# Altium footprint library ALTAIR_PD_PlatedTH.PcbLib: 1 footprints
Each footprint in its own frame and in the unit in brackets; x right, y up, seen from the top. Pads: shape width x height; smd on the part's side, far side on the other; paste and mask are expansions set on the pad; w line width, h text height; cw(c..) or ccw(c..) is an arc to the next point about the centre after c.
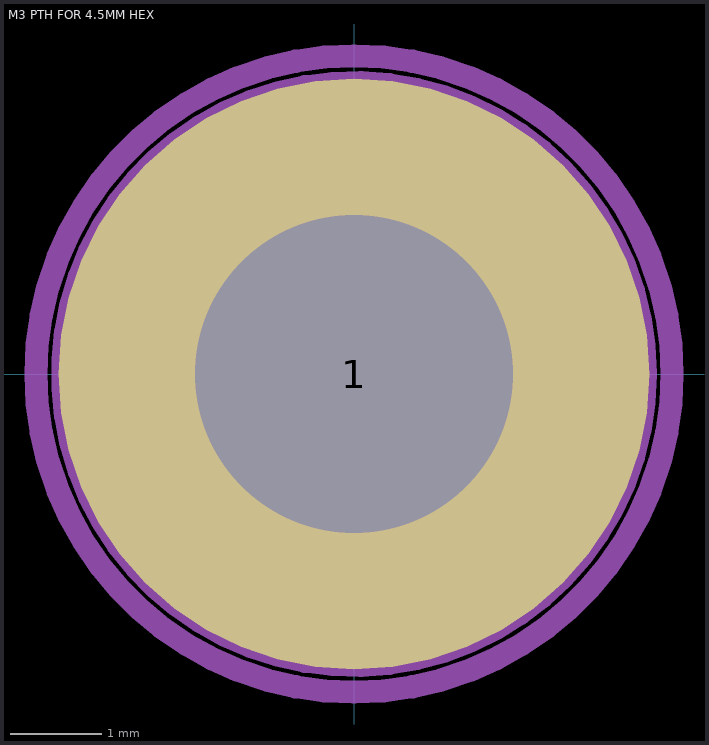
[diagram p0: the footprint, top view; thin cyan lines are the x and y axes]

## M3 PTH FOR 4.5MM HEX [mm] "M3 plated through hole; oversized for 4.5mm hex standoffs"
pads (1):
  round 6.5 hole 3.5: 1(0,0)
Top Courtyard:
  circle w0.254: c0,0 r3.5
Bottom Courtyard:
  circle w0.254: c0,0 r3.5
Mechanical 13:
  circle w0.254: c0,0 r3.205